# EAGLE library part 74LCX125 (library NixieDisplay)
5V tolerant 3.3V buffer
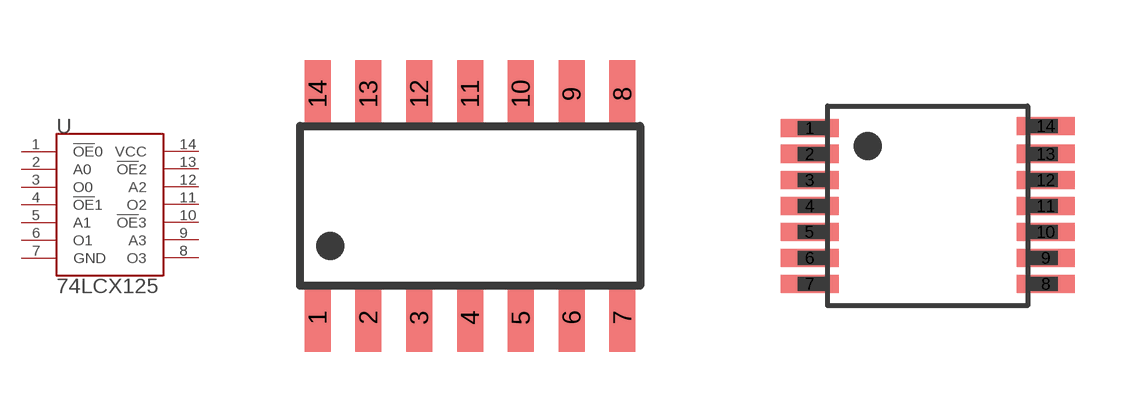
[diagram p2: symbol with the pads of SO-14N; footprints SO-14N, TSSOP-14]

Designator prefix U

## 74LCX125  [SO-14N]
1  !OE!0  in
2  A0  in
3  O0  out
4  !OE!1  in
5  A1  in
6  O1  out
7  GND  pwr
8  O3  out
9  A3  in
10  !OE!3  in
11  O2  out
12  A2  in
13  !OE!2  in
14  VCC  pwr

## 74LCX125T  [TSSOP-14]
Pads as for SO-14N

## Footprint SO-14N (pad centres in mm)
smd 0.65 x 1.7: 1 -3.81,-2.8; 2 -2.54,-2.8; 3 -1.27,-2.8; 4 0,-2.8; 5 1.27,-2.8; 6 2.54,-2.8; 7 3.81,-2.8; 8 3.81,2.8; 9 2.54,2.8; 10 1.27,2.8; 11 0,2.8; 12 -1.27,2.8; 13 -2.54,2.8; 14 -3.81,2.8

## Footprint TSSOP-14 (pad centres in mm)
smd 1.45 x 0.45: 1 -2.95,1.95; 2 -2.95,1.3; 3 -2.95,0.65; 4 -2.95,0; 5 -2.95,-0.65; 6 -2.95,-1.3; 7 -2.95,-1.95; 8 2.95,-1.95; 9 2.95,-1.3; 10 2.95,-0.65; 11 2.95,0; 12 2.95,0.65; 13 2.95,1.3; 14 2.95,2